# Altium footprint library Nevron_v4.PcbLib: 26 footprints (part 1 of 2)
Each footprint in its own frame and in the unit in brackets; x right, y up, seen from the top. Pads: shape width x height; smd on the part's side, far side on the other; paste and mask are expansions set on the pad; w line width, h text height; cw(c..) or ccw(c..) is an arc to the next point about the centre after c.
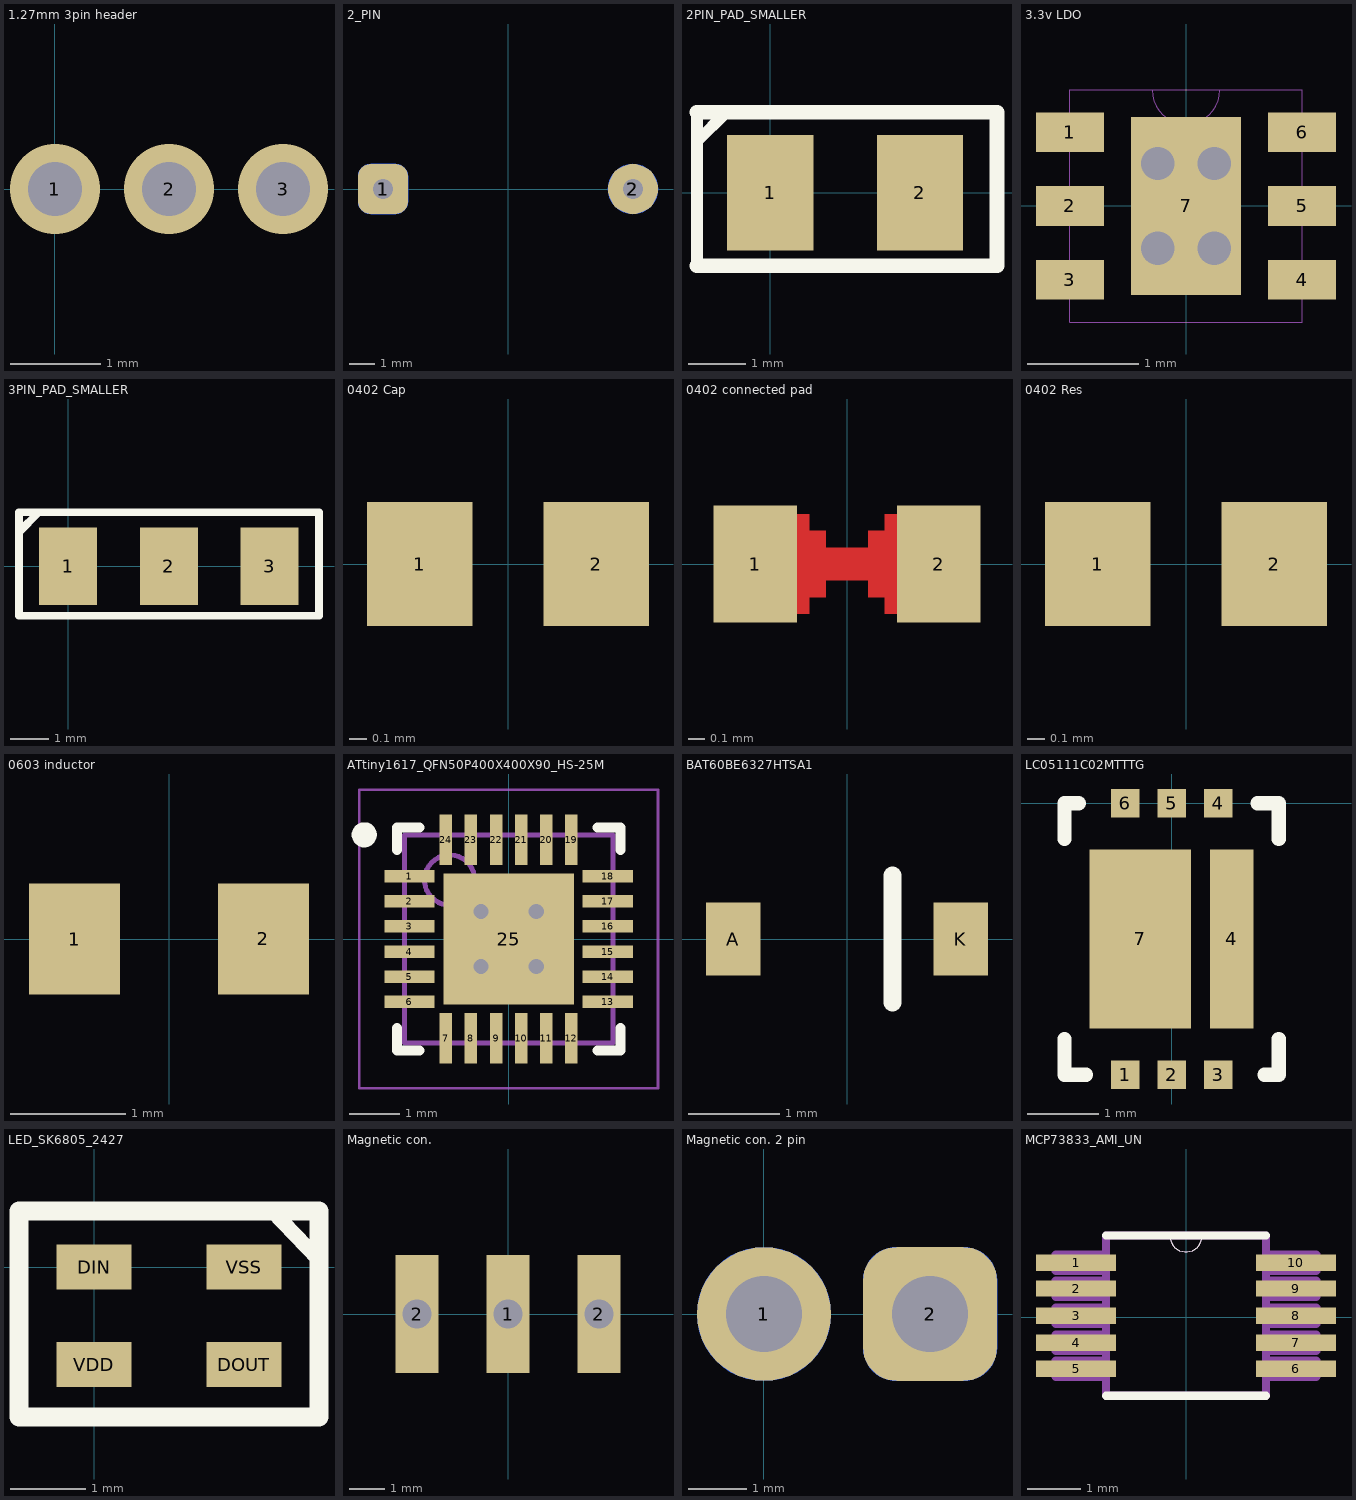
[diagram p0: the footprints below, top view; thin cyan lines are the x and y axes]

## 1.27mm 3pin header [mm]
pads (3):
  round 0.8 smd: 1(0,0) 2(1.27,0) 3(2.54,0)
via 2.54,0 diameter 1 hole 0.6
via 1.27,0 diameter 1 hole 0.6
via 0,0 diameter 1 hole 0.6

## 2_PIN [mm]
pads (4):
  rrect50% 2x2 smd: 1(-5,0)
  rrect50% 2x2 smd far side: 1(-5,0)
  round 2 smd: 2(5,0)
  round 2 smd far side: 2(5,0)
via -5,0 diameter 0.8 hole 0.8
via 5,0 diameter 0.8 hole 0.8

## 2PIN_PAD_SMALLER [mm]
pads (2):
  rect 1.5x2 smd: 1(0,0) 2(2.6,0)
Top Overlay:
  lines w0.2: -1.27,-1.27 -1.27,1.397 ; -1.27,0.889 -0.762,1.397
  lines w0.254: -1.27,-1.27 3.937,-1.27 3.937,1.397 -1.27,1.397

## 3.3v LDO [mil] "TPS79933DRVR"
pads (7):
  rect 24x14 smd: 1(-41,26) 2(-41,0) 3(-41,-26) 4(41,-26) 5(41,0) 6(41,26)
  rect 39x63 smd: 7(0,0)
via 10,15 diameter 15.75 hole 11.81
via -10,15 diameter 15.75 hole 11.81
via 10,-15 diameter 15.75 hole 11.81
via -10,-15 diameter 15.75 hole 11.81
Mechanical 4:
  lines w0: -41,-41 41,-41 ; -41,-41 -41,41 ; -41,-41 41,-41 ; -41,-41 -41,41 ; -41,41 -12,41 ; -41,41 -12,41 ; -12,41 ccw(c0,41) 12,41 ; -12,41 ccw(c0,41) 12,41 ; -12,41 12,41 ; -12,41 12,41 ; 12,41 41,41 ; 12,41 41,41 ; 41,-41 41,41 ; 41,-41 41,41

## 3PIN_PAD_SMALLER [mm]
pads (3):
  rect 1.5x2 smd: 1(0,0) 2(2.6,0) 3(5.2,0)
Top Overlay:
  lines w0.2: -1.27,0.889 -0.762,1.397 ; -1.27,-1.27 6.477,-1.27 6.477,1.397 -1.27,1.397 -1.27,-1.27

## 0402 Cap [mm]
pads (2):
  rect 0.6x0.7 smd: 1(-0.5,0) 2(0.5,0)
3D body "CAPC0402 v2.step": height 0.5, standoff 0, extent -0.5,-0.25 0.5,0.25

## 0402 connected pad [mm]
pads (2):
  rect 0.5x0.7 smd: 1(-0.55,0) 2(0.55,0)
Top Layer:
  rectangle: 0.225,-0.3 0.375,0.3
  rectangle: -0.375,-0.3 -0.225,0.3
  rectangle: 0.125,-0.2 0.275,0.2
  rectangle: -0.275,-0.2 -0.125,0.2
  lines w0.2: -0.55,0 0.55,0

## 0402 Res [mm]
pads (2):
  rect 0.6x0.7 smd: 1(-0.5,0) 2(0.5,0)
3D body "RES0402.stp": height 0.3, standoff 0, extent -0.5,-0.25 0.5,0.25

## 0603 inductor [mil]
pads (2):
  rect 31x38 smd: 1(-32.23,0) 2(32.23,0)
3D body "INDC-0603.stp": height 37.4, standoff 0, extent -36.67,-18.7 32.23,18.7

## ATtiny1617_QFN50P400X400X90_HS-25M [mm]
pads (25):
  rect 1x0.25 smd: 1(-1.975,1.25) 2(-1.975,0.75) 3(-1.975,0.25) 4(-1.975,-0.25) 5(-1.975,-0.75) 6(-1.975,-1.25) 13(1.975,-1.25) 14(1.975,-0.75) 15(1.975,-0.25) 16(1.975,0.25) 17(1.975,0.75) 18(1.975,1.25)
  rect 0.25x1 smd: 7(-1.25,-1.975) 8(-0.75,-1.975) 9(-0.25,-1.975) 10(0.25,-1.975) 11(0.75,-1.975) 12(1.25,-1.975) 19(1.25,1.975) 20(0.75,1.975) 21(0.25,1.975) 22(-0.25,1.975) 23(-0.75,1.975) 24(-1.25,1.975)
  rect 2.6x2.6 smd: 25(0,0)
via 0.55,-0.55 diameter 0.5 hole 0.3
via -0.55,-0.55 diameter 0.5 hole 0.3
via 0.55,0.55 diameter 0.5 hole 0.3
via -0.55,0.55 diameter 0.5 hole 0.3
Top Overlay:
  circle w0.25: c-2.875,2.075 r0.125
  lines w0.2: -2.225,-1.775 -2.225,-2.225 -1.775,-2.225 ; -2.225,1.775 -2.225,2.225 -1.775,2.225 ; 1.775,-2.225 2.225,-2.225 2.225,-1.775 ; 1.775,2.225 2.225,2.225 2.225,1.775
Mechanical 13:
  circle w0.1: c-1.175,1.175 r0.5
  lines w0.1: -2.075,-2.075 2.075,-2.075 2.075,2.075 -2.075,2.075 -2.075,-2.075
Mechanical 15:
  lines w0.05: -2.975,-2.975 2.975,-2.975 2.975,2.975 -2.975,2.975 -2.975,-2.975
  lines w0.1: -0.5,0 0.5,0 ; 0,-0.5 0,0.5
3D body "ATtiny817_QFN50P400X400X90_HS-25M.step": height 0.9, standoff 0, extent -2.076,-2.076 2.076,2.076

## BAT60BE6327HTSA1 [mm]
pads (2):
  rect 0.6x0.8 smd: A(-1.25,0) K(1.25,0)
Top Overlay:
  lines w0.2: 0.5,-0.7 0.5,0.7

## LC05111C02MTTTG [mm] "lipo protection"
pads (8):
  rect 0.4x0.4 smd mask+0.05: 1(-0.65,-3.8) 2(0,-3.8) 3(0.65,-3.8) 4(0.65,0) 5(0,0) 6(-0.65,0)
  rect 0.615x2.5 smd mask+0: 4(0.84,-1.9)
  rect 1.415x2.5 smd mask+0: 7(-0.44,-1.9)
Top Overlay:
  lines w0.2: -1.5,-3.3 -1.5,-3.8 -1.2,-3.8 ; -1.5,-0.5 -1.5,0 -1.3,0 ; 1.2,0 1.5,0 1.5,-0.5 ; 1.3,-3.8 1.5,-3.8 1.5,-3.3

## LED_SK6805_2427 [mm]
pads (4):
  rect 1x0.6 smd: DIN(0,0) DOUT(2,-1.3) VDD(0,-1.3) VSS(2,0)
Top Overlay:
  lines w0.2: 2.376,0.75 2.987,0.111
  lines w0.254: -1,0.254 -1,0.258 ; 2.376,0.75 -1,0.75 ; -1,0.75 -1,-2 3,-2 3,0.75 -1,0.75
3D body: height 1, standoff 0, extent -0.356,-1.841 2.362,0.572

## Magnetic con. [mm]
pads (3):
  rect 1.2x3.3 smd: 1(0,0) 2(-2.54,0) 2(2.54,0)
via 2.54,0 diameter 0.8 hole 0.8
via 0,0 diameter 0.8 hole 0.8
via -2.54,0 diameter 0.8 hole 0.8

## Magnetic con. 2 pin [mm]
pads (4):
  round 2.3 smd: 1(0,0)
  round 2.3 smd far side: 1(0,0)
  rrect50% 2.3x2.3 smd: 2(2.85,0)
  rrect50% 2.3x2.3 smd far side mask+0.05: 2(2.85,0)
via 2.85,0 diameter 2.3 hole 1.3
via 0,0 diameter 2 hole 1.3

## MCP73833_AMI_UN [mil] "LiPo charger"
pads (10):
  rect 59x12 smd: 1(-81,40) 2(-81,21) 3(-81,1) 4(-81,-19) 5(-81,-38) 6(81,-38) 7(81,-19) 8(81,1) 9(81,21) 10(81,40)
Top Overlay:
  lines w0: -12,60 ccw(c0,60) 12,60
  lines w6: -59,-58 59,-58 ; -59,60 -12,60 12,60 59,60
Mechanical 4:
  lines w0: -12,60 ccw(c0,60) 12,60 cw(c0,60) -12,60
  lines w6: -96,-44 -59,-44 ; -96,-44 -96,-32 ; -96,-44 -59,-44 ; -96,-44 -96,-32 ; -96,-32 -59,-32 ; -96,-32 -59,-32 ; -96,-25 -59,-25 ; -96,-25 -96,-13 ; -96,-25 -59,-25 ; -96,-25 -96,-13 ; -96,-13 -59,-13 ; -96,-13 -59,-13 ; -96,-5 -59,-5 ; -96,-5 -96,7 ; -96,-5 -59,-5 ; -96,-5 -96,7 ; -96,7 -59,7 ; -96,7 -59,7 ; -96,15 -59,15 ; -96,15 -96,27 ; -96,15 -59,15 ; -96,15 -96,27 ; -96,27 -59,27 ; -96,27 -59,27 ; -96,34 -59,34 ; -96,34 -96,46 ; -96,34 -59,34 ; -96,34 -96,46 ; -96,46 -59,46 ; -96,46 -59,46 ; -59,-58 -59,60 ; -59,-58 59,-58 ; -59,-58 -59,60 ; -59,-58 59,-58 ; -59,-44 -59,-32 ; -59,-44 -59,-32 ; -59,-25 -59,-13 ; -59,-25 -59,-13 ; -59,-5 -59,7 ; -59,-5 -59,7 ; -59,15 -59,27 ; -59,15 -59,27 ; -59,34 -59,46 ; -59,34 -59,46 ; -59,60 -12,60 ; -59,60 -12,60 ; -12,60 12,60 ; -12,60 12,60 ; 12,60 59,60 ; 12,60 59,60 ; 59,-58 59,60 ; 59,-58 59,60 ; 59,-44 96,-44 ; 59,-44 59,-32 ; 59,-44 96,-44 ; 59,-44 59,-32 ; 59,-32 96,-32 ; 59,-32 96,-32 ; 59,-25 96,-25 ; 59,-25 59,-13 ; 59,-25 96,-25 ; 59,-25 59,-13 ; 59,-13 96,-13 ; 59,-13 96,-13 ; 59,-5 96,-5 ; 59,-5 59,7 ; 59,-5 96,-5 ; 59,-5 59,7 ; 59,7 96,7 ; 59,7 96,7 ; 59,15 96,15 ; 59,15 59,27 ; 59,15 96,15 ; 59,15 59,27 ; 59,27 96,27 ; 59,27 96,27 ; 59,34 96,34 ; 59,34 59,46 ; 59,34 96,34 ; 59,34 59,46 ; 59,46 96,46 ; 59,46 96,46 ; 96,-44 96,-32 ; 96,-44 96,-32 ; 96,-25 96,-13 ; 96,-25 96,-13 ; 96,-5 96,7 ; 96,-5 96,7 ; 96,15 96,27 ; 96,15 96,27 ; 96,34 96,46 ; 96,34 96,46
3D body "msop-10.step": height 45.28, standoff 0, extent -96.45,-59.05 96.46,59.06